# Altium footprint library 25Vto6V 5A Buck.PcbLib: 1 footprints
Each footprint in its own frame and in the unit in brackets; x right, y up, seen from the top. Pads: shape width x height; smd on the part's side, far side on the other; paste and mask are expansions set on the pad; w line width, h text height; cw(c..) or ccw(c..) is an arc to the next point about the centre after c.
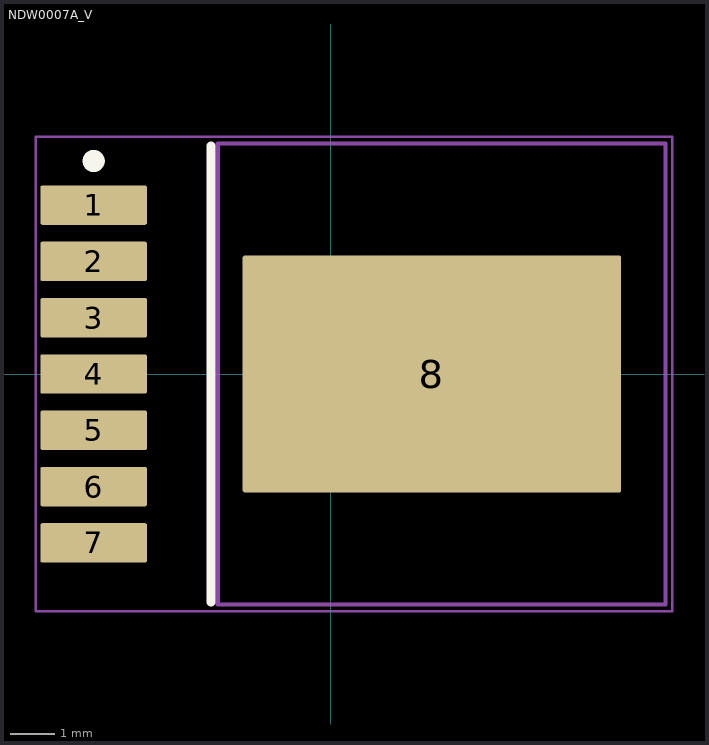
[diagram p0: the footprint, top view; thin cyan lines are the x and y axes]

## NDW0007A_V [mm] "D2-PAK, 8-Leads, Body 9.9x10.2mm, Pitch 1.27mm, Lead Span 13.8mm, TI Recommended"
height 4.67
pads (8):
  rrect11% 2.41x0.89 smd: 1(-5.35,3.81) 2(-5.35,2.54) 3(-5.35,1.27) 4(-5.35,0) 5(-5.35,-1.27) 6(-5.35,-2.54) 7(-5.35,-3.81)
  rrect2% 8.54x5.35 smd: 8(2.28,0)
Top Overlay:
  circle w0.25: c-5.35,4.805 r0.125
  lines w0.2: -2.7,-5.15 -2.7,5.15
Mechanical 1:
  text ".Designator" at -1.524,-0.508 h1.02
Mechanical 13:
  lines w0.1: -2.55,-5.2 7.55,-5.2 7.55,5.2 -2.55,5.2 -2.55,-5.2
Mechanical 15:
  lines w0.05: -6.655,-5.35 7.7,-5.35 7.7,5.35 -6.655,5.35 -6.655,-5.35
  lines w0.1: -0.5,0 0.5,0 ; 0,-0.5 0,0.5
3D body: height 4.67, standoff 0, extent -2.55,-5.2 7.55,5.2